# Altium schematic symbol library LT1017IS8PBF.SchLib: 1 symbol
Pins are listed as number, name and electrical type; pins without a type are passive.

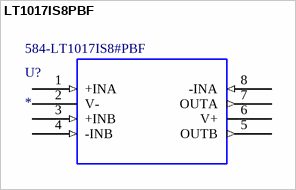
[diagram p0: symbol LT1017IS8PBF]

## LT1017IS8PBF
designator U?  Supplier Part Number 1: 584-LT1017IS8#PBF
Comparator General Purpose Pull Up 8-SOIC; MF: Analog Devices; MP: LT1017IS8#PBF; Purchase-URL: https://pricing.snapeda.com/search/part/LT1017IS8#PBF/?ref=eda; Check_prices: https://www.snapeda.com/parts/LT1017IS8%23PBF/Analog%20Devices/view-part/4348316/?ref=eda; Value: *; Package: SOIC -8 Analog Devices; Price: None; Availability: In Stock; SnapEDA_Link: https://www.snapeda.com/parts/LT1017IS8%23PBF/Analog%20Devices/view-part/4348316/?ref=snap; Supplier 1: Mouser
footprint SO-8_S
pins: 1 +INA (in), 2 V- (power), 3 +INB (in), 4 -INB (in), 5 OUTB (out), 6 V+ (power), 7 OUTA (out), 8 -INA (in)